# EAGLE library part MAX20345AEWN+ (library MAX20345_All)
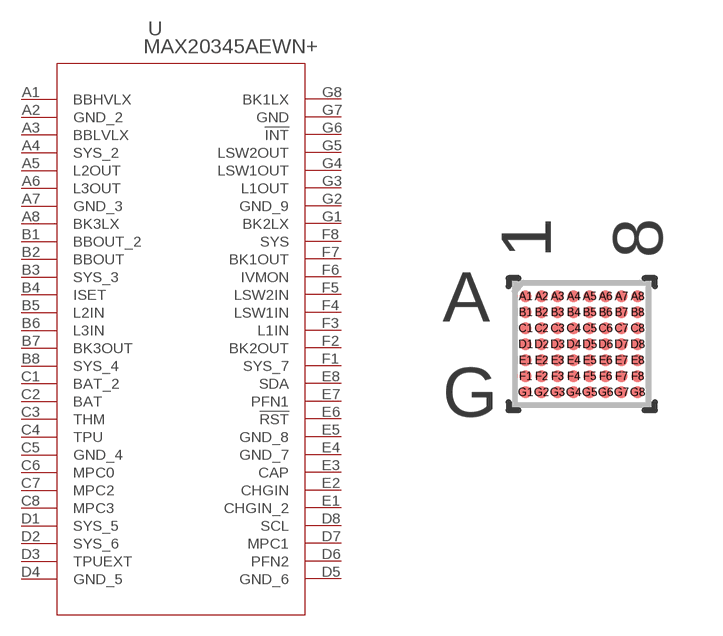
[diagram p0: symbol with the pads of 21-100260A_W563H3+1; footprint 21-100260A_W563H3+1]

Designator prefix U

## MAX20345AEWN+ (MANUFACTURER_PART_NUMBER: MAX20345AEWN+; VENDOR: Maxim Integrated Products)  [21-100260A_W563H3+1]
A1  BBHVLX  pas
A2  GND_2  pwr
A3  BBLVLX  pas
A4  SYS_2  pas
A5  L2OUT  out
A6  L3OUT  out
A7  GND_3  pwr
A8  BK3LX  pas
B1  BBOUT_2  out
B2  BBOUT  out
B3  SYS_3  pas
B4  ISET  pas
B5  L2IN  in
B6  L3IN  in
B7  BK3OUT  out
B8  SYS_4  pas
C1  BAT_2  pas
C2  BAT  pas
C3  THM  pas
C4  TPU  pas
C5  GND_4  pwr
C6  MPC0
C7  MPC2
C8  MPC3
D1  SYS_5  pas
D2  SYS_6  pas
D3  TPUEXT  pas
D4  GND_5  pwr
D5  GND_6  pwr
D6  PFN2  pas
D7  MPC1
D8  SCL  in
E1  CHGIN_2  in
E2  CHGIN  in
E3  CAP  pas
E4  GND_7  pwr
E5  GND_8  pwr
E6  !RST  out
E7  PFN1  pas
E8  SDA
F1  SYS_7  pas
F2  BK2OUT  out
F3  L1IN  in
F4  LSW1IN  in
F5  LSW2IN  in
F6  IVMON  out
F7  BK1OUT  out
F8  SYS  pas
G1  BK2LX  pas
G2  GND_9  pwr
G3  L1OUT  out
G4  LSW1OUT  out
G5  LSW2OUT  out
G6  !INT  out
G7  GND  pwr
G8  BK1LX  pas

## Footprint 21-100260A_W563H3+1 (pad centres in mm)
smd 0.305 x 0.305: A1 -1.4,1.2; A2 -1,1.2; A3 -0.6,1.2; A4 -0.2,1.2; A5 0.2,1.2; A6 0.6,1.2; A7 1,1.2; A8 1.4,1.2; B1 -1.4,0.8; B2 -1,0.8; B3 -0.6,0.8; B4 -0.2,0.8; B5 0.2,0.8; B6 0.6,0.8; B7 1,0.8; B8 1.4,0.8; C1 -1.4,0.4; C2 -1,0.4; C3 -0.6,0.4; C4 -0.2,0.4; C5 0.2,0.4; C6 0.6,0.4; C7 1,0.4; C8 1.4,0.4; D1 -1.4,0; D2 -1,0; D3 -0.6,0; D4 -0.2,0; D5 0.2,0; D6 0.6,0; D7 1,0; D8 1.4,0; E1 -1.4,-0.4; E2 -1,-0.4; E3 -0.6,-0.4; E4 -0.2,-0.4; E5 0.2,-0.4; E6 0.6,-0.4; E7 1,-0.4; E8 1.4,-0.4; F1 -1.4,-0.8; F2 -1,-0.8; F3 -0.6,-0.8; F4 -0.2,-0.8; F5 0.2,-0.8; F6 0.6,-0.8; F7 1,-0.8; F8 1.4,-0.8; G1 -1.4,-1.2; G2 -1,-1.2; G3 -0.6,-1.2; G4 -0.2,-1.2; G5 0.2,-1.2; G6 0.6,-1.2; G7 1,-1.2; G8 1.4,-1.2